# Altium schematic symbol library xNEO_V1.SchLib: 1 symbol
Pins are listed as number, name and electrical type; pins without a type are passive.

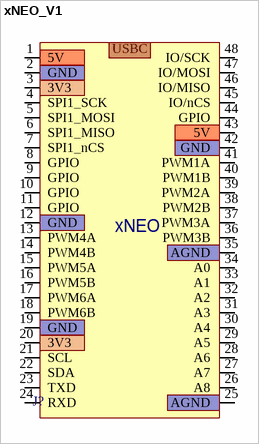
[diagram p0: symbol xNEO_V1]

## xNEO_V1
designator J?
pins: 1 5V, 2 GND, 3 3V3, 4 SPI1_SCK, 5 SPI1_MOSI, 6 SPI1_MISO, 7 SPI1_nCS, 8 GPIO, 9 GPIO, 10 GPIO, 11 GPIO, 12 GND, 13 PWM4A, 14 PWM4B, 15 PWM5A, 16 PWM5B, 17 PWM6A, 18 PWM6B, 19 GND, 20 3V3, 21 SCL, 22 SDA, 23 TXD, 24 RXD, 25 AGND, 26 A8, 27 A7, 28 A6, 29 A5, 30 A4, 31 A3, 32 A2, 33 A1, 34 A0, 35 AGND, 36 PWM3B, 37 PWM3A, 38 PWM2B, 39 PWM2A, 40 PWM1B, 41 PWM1A, 42 GND, 43 5V, 44 GPIO, 45 IO/nCS, 46 IO/MISO, 47 IO/MOSI, 48 IO/SCK
text: USBC; xNEO